# EAGLE library part 4SH (library XM8)
4 channel CV sample & hold
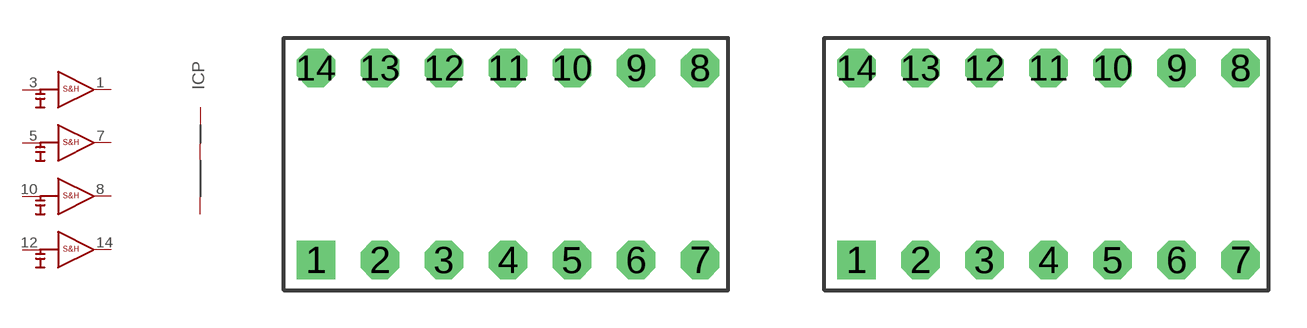
[diagram p5: symbol with the pads of XM8-4CH-SH-OPAMP; footprints XM8-4CH-SH-OPAMP, XM8-4CH-SH-DIL]

Designator prefix IC; gates G$1=XM8-SH G$2=XM8-SH G$3=XM8-SH G$4=XM8-SH P=XM8-PWR

## 4SH-V1.0  [XM8-4CH-SH-OPAMP]
1  G$1:O
2  P:AGND  pwr
3  G$1:I
4  P:+V  pwr
5  G$2:I
7  G$2:O
8  G$3:O
10  G$3:I
11  P:-V  pwr
12  G$4:I
14  G$4:O

## 4SH-V2.0  [XM8-4CH-SH-DIL]
2  G$1:I
3  G$2:I
4  G$3:I
5  G$4:I
7  P:-V  pwr
8  P:AGND  pwr
10  G$4:O
11  G$3:O
12  G$2:O
13  G$1:O
14  P:+V  pwr

## Footprint XM8-4CH-SH-OPAMP (pad centres in mm)
4ch sample & hold, quad op amp style
drill 1.016 square: 1 -7.62,-3.81
drill 1.016 octagon: 2 -5.08,-3.81; 3 -2.54,-3.81; 4 0,-3.81; 5 2.54,-3.81; 6 5.08,-3.81; 7 7.62,-3.81; 8 7.62,3.81; 9 5.08,3.81; 10 2.54,3.81; 11 0,3.81; 12 -2.54,3.81; 13 -5.08,3.81; 14 -7.62,3.81

## Footprint XM8-4CH-SH-DIL (pad centres in mm)
4ch sample & hold, DIL style
drill 1.016 square: 1 -7.62,-3.81
drill 1.016 octagon: 2 -5.08,-3.81; 3 -2.54,-3.81; 4 0,-3.81; 5 2.54,-3.81; 6 5.08,-3.81; 7 7.62,-3.81; 8 7.62,3.81; 9 5.08,3.81; 10 2.54,3.81; 11 0,3.81; 12 -2.54,3.81; 13 -5.08,3.81; 14 -7.62,3.81